# Altium integrated library WE-PD2SR (rev22a).IntLib: 20 symbols
Pins are listed as number, name and electrical type; pins without a type are passive.

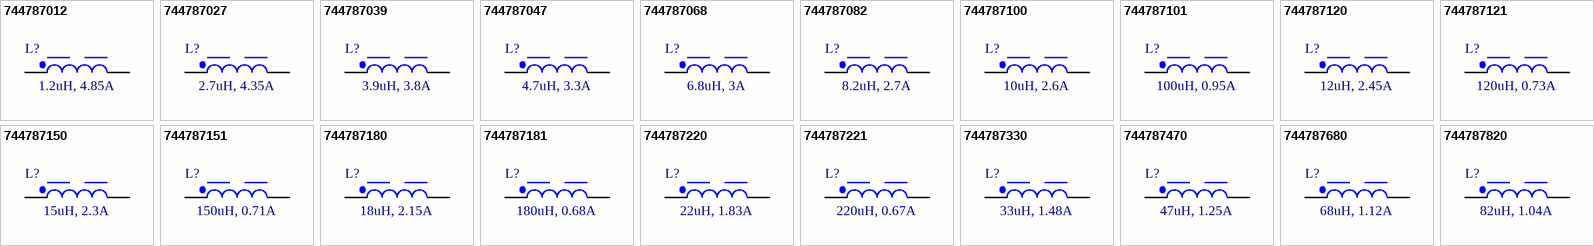
[diagram p0: symbols 744787012 to 744787820]

## 744787012
designator L?, comment 1.2uH, 4.85A
WE-PD2SR SMT Power Inductor, size 7850, 1.2uH, 4.85A, 13mOhm; Manufacturer: Wurth Elektronik; Manufacturer Part Number: 744787012; Self Resonant Frequency: 110MHz; DC Resistance typ.: 8.5mOhm; Saturation Current: 6A; ComponentLink1Description: Manufacturer; ComponentLink1URL: http://www.we-online.de; ComponentLink2Description: Datasheet; ComponentLink2URL: https://www.we-online.com/catalog/datasheet/744787012.pdf; Mounting Technology: SMT; Operating Temperature: -40 to +125degC; Packaging: Tape and Reel; Height: 5mm; DC Resistance max.: 13mOhm; Inductance: 1.2uH; Rated Current: 4.85A; Size: 7850; Length: 7.8mm; Width: 7mm
footprint WE-PD2SR_7850
pins: 1, 2

## 744787027
designator L?, comment 2.7uH, 4.35A
WE-PD2SR SMT Power Inductor, size 7850, 2.7uH, 4.35A, 17mOhm; Manufacturer: Wurth Elektronik; Manufacturer Part Number: 744787027; Self Resonant Frequency: 60MHz; DC Resistance typ.: 13.5mOhm; Saturation Current: 4.5A; ComponentLink1Description: Manufacturer; ComponentLink1URL: http://www.we-online.de; ComponentLink2Description: Datasheet; ComponentLink2URL: https://www.we-online.com/catalog/datasheet/744787027.pdf; Mounting Technology: SMT; Operating Temperature: -40 to +125degC; Packaging: Tape and Reel; Height: 5mm; DC Resistance max.: 17mOhm; Inductance: 2.7uH; Rated Current: 4.35A; Size: 7850; Length: 7.8mm; Width: 7mm
footprint WE-PD2SR_7850
pins: 1, 2

## 744787039
designator L?, comment 3.9uH, 3.8A
WE-PD2SR SMT Power Inductor, size 7850, 3.9uH, 3.8A, 20mOhm; Manufacturer: Wurth Elektronik; Manufacturer Part Number: 744787039; Self Resonant Frequency: 45MHz; DC Resistance typ.: 16.7mOhm; Saturation Current: 4A; ComponentLink1Description: Manufacturer; ComponentLink1URL: http://www.we-online.de; ComponentLink2Description: Datasheet; ComponentLink2URL: https://www.we-online.com/catalog/datasheet/744787039.pdf; Mounting Technology: SMT; Operating Temperature: -40 to +125degC; Packaging: Tape and Reel; Height: 5mm; DC Resistance max.: 20mOhm; Inductance: 3.9uH; Rated Current: 3.8A; Size: 7850; Length: 7.8mm; Width: 7mm
footprint WE-PD2SR_7850
pins: 1, 2

## 744787047
designator L?, comment 4.7uH, 3.3A
WE-PD2SR SMT Power Inductor, size 7850, 4.7uH, 3.3A, 29mOhm; Manufacturer: Wurth Elektronik; Manufacturer Part Number: 744787047; Self Resonant Frequency: 42MHz; DC Resistance typ.: 24.3mOhm; Saturation Current: 3.6A; ComponentLink1Description: Manufacturer; ComponentLink1URL: http://www.we-online.de; ComponentLink2Description: Datasheet; ComponentLink2URL: https://www.we-online.com/catalog/datasheet/744787047.pdf; Mounting Technology: SMT; Operating Temperature: -40 to +125degC; Packaging: Tape and Reel; Height: 5mm; DC Resistance max.: 29mOhm; Inductance: 4.7uH; Rated Current: 3.3A; Size: 7850; Length: 7.8mm; Width: 7mm
footprint WE-PD2SR_7850
pins: 1, 2

## 744787068
designator L?, comment 6.8uH, 3A
WE-PD2SR SMT Power Inductor, size 7850, 6.8uH, 3A, 33mOhm; Manufacturer: Wurth Elektronik; Manufacturer Part Number: 744787068; Self Resonant Frequency: 30MHz; DC Resistance typ.: 27mOhm; ComponentLink1Description: Manufacturer; ComponentLink1URL: http://www.we-online.de; ComponentLink2Description: Datasheet; ComponentLink2URL: https://www.we-online.com/catalog/datasheet/744787068.pdf; Mounting Technology: SMT; Operating Temperature: -40 to +125degC; Packaging: Tape and Reel; Height: 5mm; DC Resistance max.: 33mOhm; Inductance: 6.8uH; Saturation Current: 3A; Rated Current: 3A; Size: 7850; Length: 7.8mm; Width: 7mm
footprint WE-PD2SR_7850
pins: 1, 2

## 744787082
designator L?, comment 8.2uH, 2.7A
WE-PD2SR SMT Power Inductor, size 7850, 8.2uH, 2.7A, 39mOhm; Manufacturer: Wurth Elektronik; Manufacturer Part Number: 744787082; Self Resonant Frequency: 28MHz; DC Resistance typ.: 33mOhm; Saturation Current: 2.8A; ComponentLink1Description: Manufacturer; ComponentLink1URL: http://www.we-online.de; ComponentLink2Description: Datasheet; ComponentLink2URL: https://www.we-online.com/catalog/datasheet/744787082.pdf; Mounting Technology: SMT; Operating Temperature: -40 to +125degC; Packaging: Tape and Reel; Height: 5mm; DC Resistance max.: 39mOhm; Inductance: 8.2uH; Rated Current: 2.7A; Size: 7850; Length: 7.8mm; Width: 7mm
footprint WE-PD2SR_7850
pins: 1, 2

## 744787100
designator L?, comment 10uH, 2.6A
WE-PD2SR SMT Power Inductor, size 7850, 10uH, 2.6A, 43mOhm; Manufacturer: Wurth Elektronik; Manufacturer Part Number: 744787100; Self Resonant Frequency: 24MHz; DC Resistance typ.: 36.5mOhm; ComponentLink1Description: Manufacturer; ComponentLink1URL: http://www.we-online.de; ComponentLink2Description: Datasheet; ComponentLink2URL: https://www.we-online.com/catalog/datasheet/744787100.pdf; Mounting Technology: SMT; Operating Temperature: -40 to +125degC; Packaging: Tape and Reel; Height: 5mm; DC Resistance max.: 43mOhm; Inductance: 10uH; Saturation Current: 2.6A; Rated Current: 2.6A; Size: 7850; Length: 7.8mm; Width: 7mm
footprint WE-PD2SR_7850
pins: 1, 2

## 744787101
designator L?, comment 100uH, 0.95A
WE-PD2SR SMT Power Inductor, size 7850, 100uH, 0.95A, 467mOhm; Manufacturer: Wurth Elektronik; Manufacturer Part Number: 744787101; Self Resonant Frequency: 5MHz; DC Resistance typ.: 396mOhm; Saturation Current: 0.87A; ComponentLink1Description: Manufacturer; ComponentLink1URL: http://www.we-online.de; ComponentLink2Description: Datasheet; ComponentLink2URL: https://www.we-online.com/catalog/datasheet/744787101.pdf; Mounting Technology: SMT; Operating Temperature: -40 to +125degC; Packaging: Tape and Reel; Height: 5mm; DC Resistance max.: 467mOhm; Inductance: 100uH; Rated Current: 0.95A; Size: 7850; Length: 7.8mm; Width: 7mm
footprint WE-PD2SR_7850
pins: 1, 2

## 744787120
designator L?, comment 12uH, 2.45A
WE-PD2SR SMT Power Inductor, size 7850, 12uH, 2.45A, 52mOhm; Manufacturer: Wurth Elektronik; Manufacturer Part Number: 744787120; Self Resonant Frequency: 20MHz; DC Resistance typ.: 45mOhm; Saturation Current: 2.4A; ComponentLink1Description: Manufacturer; ComponentLink1URL: http://www.we-online.de; ComponentLink2Description: Datasheet; ComponentLink2URL: https://www.we-online.com/catalog/datasheet/744787120.pdf; Mounting Technology: SMT; Operating Temperature: -40 to +125degC; Packaging: Tape and Reel; Height: 5mm; DC Resistance max.: 52mOhm; Inductance: 12uH; Rated Current: 2.45A; Size: 7850; Length: 7.8mm; Width: 7mm
footprint WE-PD2SR_7850
pins: 1, 2

## 744787121
designator L?, comment 120uH, 0.73A
WE-PD2SR SMT Power Inductor, size 7850, 120uH, 0.73A, 643mOhm; Manufacturer: Wurth Elektronik; Manufacturer Part Number: 744787121; Self Resonant Frequency: 4.5MHz; DC Resistance typ.: 545mOhm; Saturation Current: 0.8A; ComponentLink1Description: Manufacturer; ComponentLink1URL: http://www.we-online.de; ComponentLink2Description: Datasheet; ComponentLink2URL: https://www.we-online.com/catalog/datasheet/744787121.pdf; Mounting Technology: SMT; Operating Temperature: -40 to +125degC; Packaging: Tape and Reel; Height: 5mm; DC Resistance max.: 643mOhm; Inductance: 120uH; Rated Current: 0.73A; Size: 7850; Length: 7.8mm; Width: 7mm
footprint WE-PD2SR_7850
pins: 1, 2

## 744787150
designator L?, comment 15uH, 2.3A
WE-PD2SR SMT Power Inductor, size 7850, 15uH, 2.3A, 60mOhm; Manufacturer: Wurth Elektronik; Manufacturer Part Number: 744787150; Self Resonant Frequency: 18MHz; DC Resistance typ.: 52mOhm; Saturation Current: 2.1A; ComponentLink1Description: Manufacturer; ComponentLink1URL: http://www.we-online.de; ComponentLink2Description: Datasheet; ComponentLink2URL: https://www.we-online.com/catalog/datasheet/744787150.pdf; Mounting Technology: SMT; Operating Temperature: -40 to +125degC; Packaging: Tape and Reel; Height: 5mm; DC Resistance max.: 60mOhm; Inductance: 15uH; Rated Current: 2.3A; Size: 7850; Length: 7.8mm; Width: 7mm
footprint WE-PD2SR_7850
pins: 1, 2

## 744787151
designator L?, comment 150uH, 0.71A
WE-PD2SR SMT Power Inductor, size 7850, 150uH, 0.71A, 719mOhm; Manufacturer: Wurth Elektronik; Manufacturer Part Number: 744787151; Self Resonant Frequency: 4MHz; DC Resistance typ.: 610mOhm; Saturation Current: 0.7A; ComponentLink1Description: Manufacturer; ComponentLink1URL: http://www.we-online.de; ComponentLink2Description: Datasheet; ComponentLink2URL: https://www.we-online.com/catalog/datasheet/744787151.pdf; Mounting Technology: SMT; Operating Temperature: -40 to +125degC; Packaging: Tape and Reel; Height: 5mm; DC Resistance max.: 719mOhm; Inductance: 150uH; Rated Current: 0.71A; Size: 7850; Length: 7.8mm; Width: 7mm
footprint WE-PD2SR_7850
pins: 1, 2

## 744787180
designator L?, comment 18uH, 2.15A
WE-PD2SR SMT Power Inductor, size 7850, 18uH, 2.15A, 78mOhm; Manufacturer: Wurth Elektronik; Manufacturer Part Number: 744787180; Self Resonant Frequency: 15MHz; DC Resistance typ.: 67mOhm; Saturation Current: 1.9A; ComponentLink1Description: Manufacturer; ComponentLink1URL: http://www.we-online.de; ComponentLink2Description: Datasheet; ComponentLink2URL: https://www.we-online.com/catalog/datasheet/744787180.pdf; Mounting Technology: SMT; Operating Temperature: -40 to +125degC; Packaging: Tape and Reel; Height: 5mm; DC Resistance max.: 78mOhm; Inductance: 18uH; Rated Current: 2.15A; Size: 7850; Length: 7.8mm; Width: 7mm
footprint WE-PD2SR_7850
pins: 1, 2

## 744787181
designator L?, comment 180uH, 0.68A
WE-PD2SR SMT Power Inductor, size 7850, 180uH, 0.68A, 794mOhm; Manufacturer: Wurth Elektronik; Manufacturer Part Number: 744787181; Self Resonant Frequency: 3.8MHz; DC Resistance typ.: 673mOhm; Saturation Current: 0.62A; ComponentLink1Description: Manufacturer; ComponentLink1URL: http://www.we-online.de; ComponentLink2Description: Datasheet; ComponentLink2URL: https://www.we-online.com/catalog/datasheet/744787181.pdf; Mounting Technology: SMT; Operating Temperature: -40 to +125degC; Packaging: Tape and Reel; Height: 5mm; DC Resistance max.: 794mOhm; Inductance: 180uH; Rated Current: 0.68A; Size: 7850; Length: 7.8mm; Width: 7mm
footprint WE-PD2SR_7850
pins: 1, 2

## 744787220
designator L?, comment 22uH, 1.83A
WE-PD2SR SMT Power Inductor, size 7850, 22uH, 1.83A, 103mOhm; Manufacturer: Wurth Elektronik; Manufacturer Part Number: 744787220; Self Resonant Frequency: 13MHz; DC Resistance typ.: 88mOhm; Saturation Current: 1.7A; ComponentLink1Description: Manufacturer; ComponentLink1URL: http://www.we-online.de; ComponentLink2Description: Datasheet; ComponentLink2URL: https://www.we-online.com/catalog/datasheet/744787220.pdf; Mounting Technology: SMT; Operating Temperature: -40 to +125degC; Packaging: Tape and Reel; Height: 5mm; DC Resistance max.: 103mOhm; Inductance: 22uH; Rated Current: 1.83A; Size: 7850; Length: 7.8mm; Width: 7mm
footprint WE-PD2SR_7850
pins: 1, 2

## 744787221
designator L?, comment 220uH, 0.67A
WE-PD2SR SMT Power Inductor, size 7850, 220uH, 0.67A, 896mOhm; Manufacturer: Wurth Elektronik; Manufacturer Part Number: 744787221; Self Resonant Frequency: 3.5MHz; DC Resistance typ.: 743mOhm; Saturation Current: 0.58A; ComponentLink1Description: Manufacturer; ComponentLink1URL: http://www.we-online.de; ComponentLink2Description: Datasheet; ComponentLink2URL: https://www.we-online.com/catalog/datasheet/744787221.pdf; Mounting Technology: SMT; Operating Temperature: -40 to +125degC; Packaging: Tape and Reel; Height: 5mm; DC Resistance max.: 896mOhm; Inductance: 220uH; Rated Current: 0.67A; Size: 7850; Length: 7.8mm; Width: 7mm
footprint WE-PD2SR_7850
pins: 1, 2

## 744787330
designator L?, comment 33uH, 1.48A
WE-PD2SR SMT Power Inductor, size 7850, 33uH, 1.48A, 161mOhm; Manufacturer: Wurth Elektronik; Manufacturer Part Number: 744787330; Self Resonant Frequency: 10MHz; DC Resistance typ.: 137mOhm; Saturation Current: 1.3A; ComponentLink1Description: Manufacturer; ComponentLink1URL: http://www.we-online.de; ComponentLink2Description: Datasheet; ComponentLink2URL: https://www.we-online.com/catalog/datasheet/744787330.pdf; Mounting Technology: SMT; Operating Temperature: -40 to +125degC; Packaging: Tape and Reel; Height: 5mm; DC Resistance max.: 161mOhm; Inductance: 33uH; Rated Current: 1.48A; Size: 7850; Length: 7.8mm; Width: 7mm
footprint WE-PD2SR_7850
pins: 1, 2

## 744787470
designator L?, comment 47uH, 1.25A
WE-PD2SR SMT Power Inductor, size 7850, 47uH, 1.25A, 243mOhm; Manufacturer: Wurth Elektronik; Manufacturer Part Number: 744787470; Self Resonant Frequency: 8MHz; DC Resistance typ.: 206mOhm; Saturation Current: 1.15A; ComponentLink1Description: Manufacturer; ComponentLink1URL: http://www.we-online.de; ComponentLink2Description: Datasheet; ComponentLink2URL: https://www.we-online.com/catalog/datasheet/744787470.pdf; Mounting Technology: SMT; Operating Temperature: -40 to +125degC; Packaging: Tape and Reel; Height: 5mm; DC Resistance max.: 243mOhm; Inductance: 47uH; Rated Current: 1.25A; Size: 7850; Length: 7.8mm; Width: 7mm
footprint WE-PD2SR_7850
pins: 1, 2

## 744787680
designator L?, comment 68uH, 1.12A
WE-PD2SR SMT Power Inductor, size 7850, 68uH, 1.12A, 290mOhm; Manufacturer: Wurth Elektronik; Manufacturer Part Number: 744787680; Self Resonant Frequency: 7.5MHz; DC Resistance typ.: 246mOhm; Saturation Current: 1A; ComponentLink1Description: Manufacturer; ComponentLink1URL: http://www.we-online.de; ComponentLink2Description: Datasheet; ComponentLink2URL: https://www.we-online.com/catalog/datasheet/744787680.pdf; Mounting Technology: SMT; Operating Temperature: -40 to +125degC; Packaging: Tape and Reel; Height: 5mm; DC Resistance max.: 290mOhm; Inductance: 68uH; Rated Current: 1.12A; Size: 7850; Length: 7.8mm; Width: 7mm
footprint WE-PD2SR_7850
pins: 1, 2

## 744787820
designator L?, comment 82uH, 1.04A
WE-PD2SR SMT Power Inductor, size 7850, 82uH, 1.04A, 328mOhm; Manufacturer: Wurth Elektronik; Manufacturer Part Number: 744787820; Self Resonant Frequency: 6MHz; DC Resistance typ.: 278mOhm; Saturation Current: 0.9A; ComponentLink1Description: Manufacturer; ComponentLink1URL: http://www.we-online.de; ComponentLink2Description: Datasheet; ComponentLink2URL: https://www.we-online.com/catalog/datasheet/744787820.pdf; Mounting Technology: SMT; Operating Temperature: -40 to +125degC; Packaging: Tape and Reel; Height: 5mm; DC Resistance max.: 328mOhm; Inductance: 82uH; Rated Current: 1.04A; Size: 7850; Length: 7.8mm; Width: 7mm
footprint WE-PD2SR_7850
pins: 1, 2